# Altium footprint library RES-SMD-0805.PcbLib: 70 footprints (part 3 of 5)
Each footprint in its own frame and in the unit in brackets; x right, y up, seen from the top. Pads: shape width x height; smd on the part's side, far side on the other; paste and mask are expansions set on the pad; w line width, h text height; cw(c..) or ccw(c..) is an arc to the next point about the centre after c.
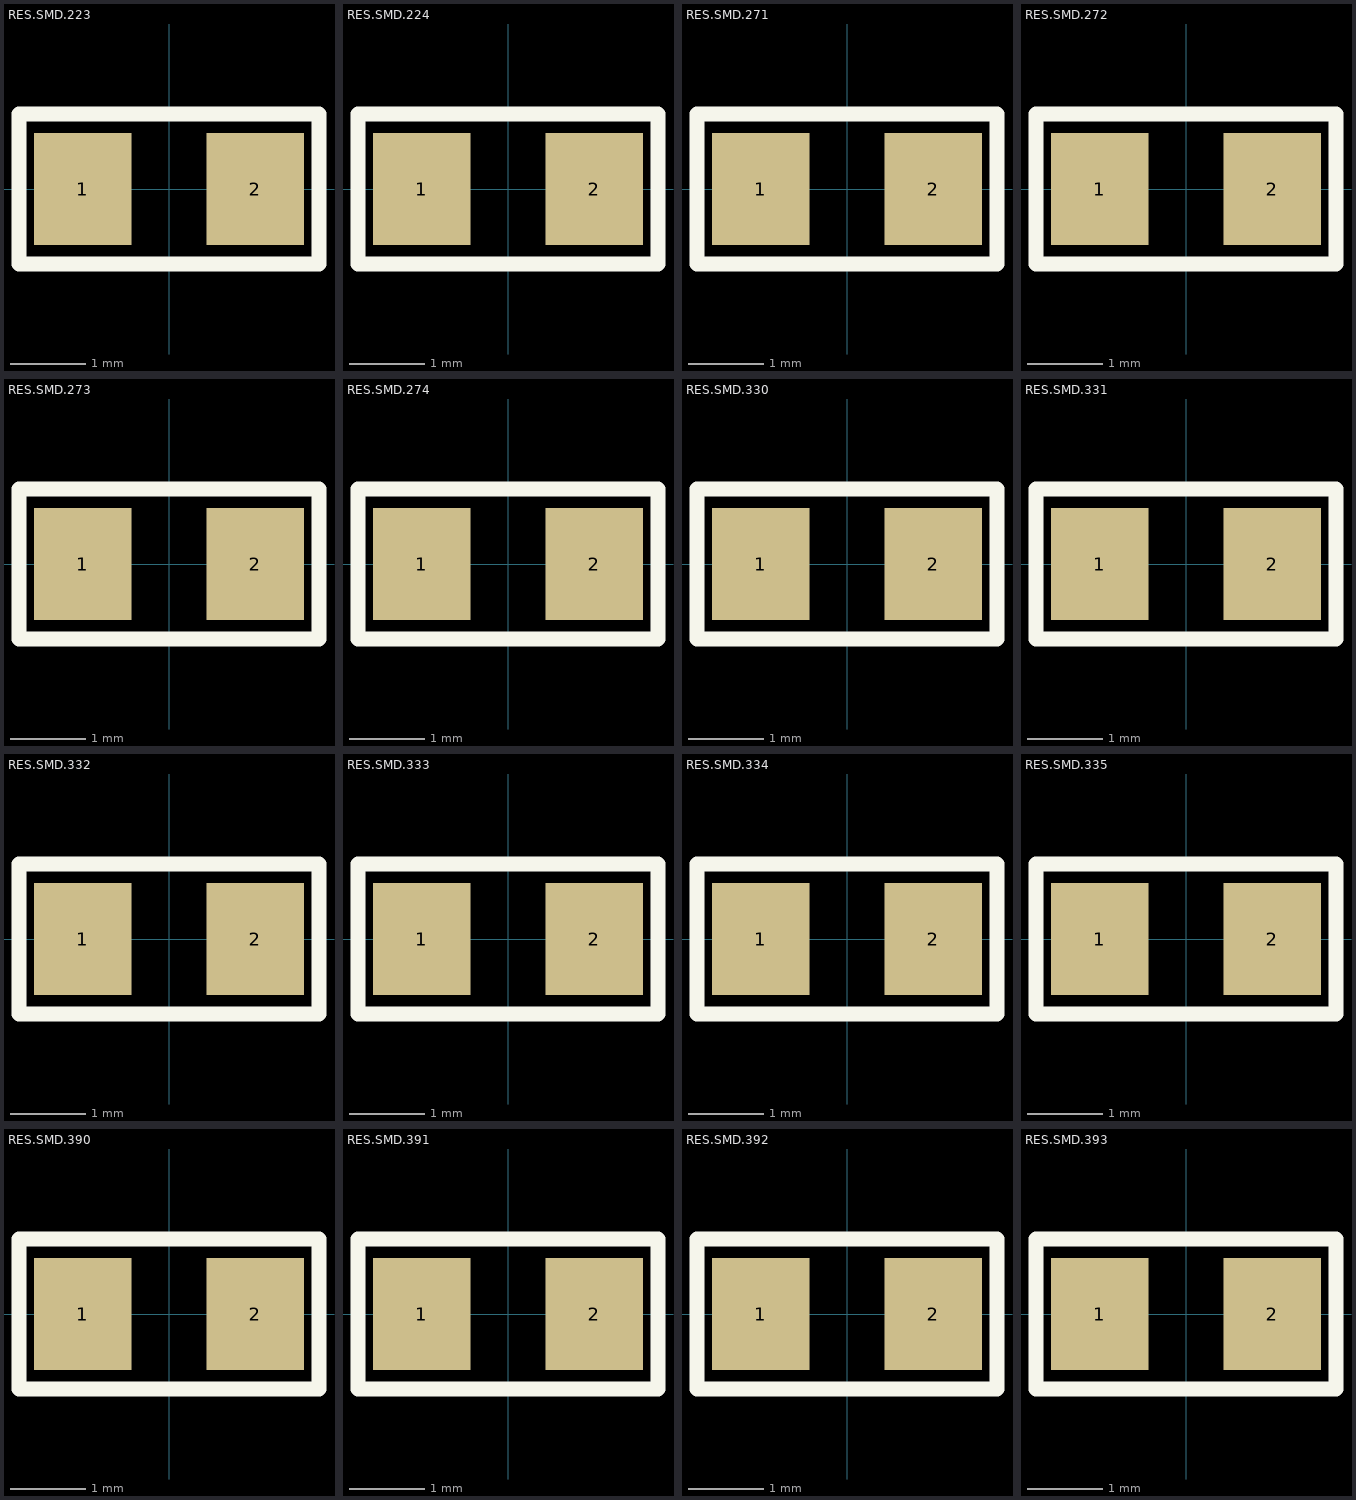
[diagram p2: the footprints below, top view; thin cyan lines are the x and y axes]

## RES.SMD.223 [mm] "5% 0805 1/8W RES.SMD"
pads (2):
  rect 1.3x1.5 smd: 1(-1.15,0) 2(1.15,0)
Top Overlay:
  lines w0.2: -2,-1 2,-1 2,1 -2,1 -2,-1
3D body "RES-SMD-223.stp": height 0.48, standoff -0.02, extent -0.873,-0.625 1.127,0.625

## RES.SMD.224 [mm] "5% 0805 1/8W RES.SMD"
pads (2):
  rect 1.3x1.5 smd: 1(-1.15,0) 2(1.15,0)
Top Overlay:
  lines w0.2: -2,-1 2,-1 2,1 -2,1 -2,-1
3D body "RES-SMD-224.stp": height 0.48, standoff -0.02, extent -0.873,-0.625 1.127,0.625

## RES.SMD.271 [mm] "5% 0805 1/8W RES.SMD"
pads (2):
  rect 1.3x1.5 smd: 1(-1.15,0) 2(1.15,0)
Top Overlay:
  lines w0.2: -2,-1 -2,1 2,1 2,-1 -2,-1
3D body "RES-SMD-271.stp": height 0.48, standoff -0.02, extent -0.873,-0.625 1.127,0.625

## RES.SMD.272 [mm] "5% 0805 1/8W RES.SMD"
pads (2):
  rect 1.3x1.5 smd: 1(-1.15,0) 2(1.15,0)
Top Overlay:
  lines w0.2: -2,-1 -2,1 2,1 2,-1 -2,-1
3D body "RES-SMD-272.stp": height 0.48, standoff -0.02, extent -0.873,-0.625 1.127,0.625

## RES.SMD.273 [mm] "5% 0805 1/8W RES.SMD"
pads (2):
  rect 1.3x1.5 smd: 1(-1.15,0) 2(1.15,0)
Top Overlay:
  lines w0.2: -2,-1 -2,1 2,1 2,-1 -2,-1
3D body "RES-SMD-273.stp": height 0.48, standoff -0.02, extent -0.873,-0.625 1.127,0.625

## RES.SMD.274 [mm] "5% 0805 1/8W RES.SMD"
pads (2):
  rect 1.3x1.5 smd: 1(-1.15,0) 2(1.15,0)
Top Overlay:
  lines w0.2: -2,-1 2,-1 2,1 -2,1 -2,-1
3D body "RES-SMD-274.stp": height 0.48, standoff -0.02, extent -0.873,-0.625 1.127,0.625

## RES.SMD.330 [mm] "5% 0805 1/8W RES.SMD"
pads (2):
  rect 1.3x1.5 smd: 1(-1.15,0) 2(1.15,0)
Top Overlay:
  lines w0.2: -2,-1 2,-1 2,1 -2,1 -2,-1
3D body "RES-SMD-330.stp": height 0.48, standoff -0.02, extent -0.873,-0.625 1.127,0.625

## RES.SMD.331 [mm] "5% 0805 1/8W RES.SMD"
pads (2):
  rect 1.3x1.5 smd: 1(-1.15,0) 2(1.15,0)
Top Overlay:
  lines w0.2: -2,-1 2,-1 2,1 -2,1 -2,-1
3D body "RES-SMD-331.stp": height 0.48, standoff -0.02, extent -0.873,-0.625 1.127,0.625

## RES.SMD.332 [mm] "5% 0805 1/8W RES.SMD"
pads (2):
  rect 1.3x1.5 smd: 1(-1.15,0) 2(1.15,0)
Top Overlay:
  lines w0.2: -2,-1 2,-1 2,1 -2,1 -2,-1
3D body "RES-SMD-332.stp": height 0.48, standoff -0.02, extent -0.873,-0.625 1.127,0.625

## RES.SMD.333 [mm] "5% 0805 1/8W RES.SMD"
pads (2):
  rect 1.3x1.5 smd: 1(-1.15,0) 2(1.15,0)
Top Overlay:
  lines w0.2: -2,-1 -2,1 2,1 2,-1 -2,-1
3D body "RES-SMD-333.stp": height 0.48, standoff -0.02, extent -0.873,-0.625 1.127,0.625

## RES.SMD.334 [mm] "5% 0805 1/8W RES.SMD"
pads (2):
  rect 1.3x1.5 smd: 1(-1.15,0) 2(1.15,0)
Top Overlay:
  lines w0.2: -2,-1 -2,1 2,1 2,-1 -2,-1
3D body "RES-SMD-334.stp": height 0.48, standoff -0.02, extent -0.873,-0.625 1.127,0.625

## RES.SMD.335 [mm] "5% 0805 1/8W RES.SMD"
pads (2):
  rect 1.3x1.5 smd: 1(-1.15,0) 2(1.15,0)
Top Overlay:
  lines w0.2: -2,-1 2,-1 2,1 -2,1 -2,-1
3D body "RES-SMD-335.stp": height 0.48, standoff -0.02, extent -0.873,-0.625 1.127,0.625

## RES.SMD.390 [mm] "5% 0805 1/8W RES.SMD"
pads (2):
  rect 1.3x1.5 smd: 1(-1.15,0) 2(1.15,0)
Top Overlay:
  lines w0.2: -2,-1 -2,1 2,1 2,-1 -2,-1
3D body "RES-SMD-390.stp": height 0.48, standoff -0.02, extent -0.873,-0.625 1.127,0.625

## RES.SMD.391 [mm] "5% 0805 1/8W RES.SMD"
pads (2):
  rect 1.3x1.5 smd: 1(-1.15,0) 2(1.15,0)
Top Overlay:
  lines w0.2: -2,-1 -2,1 2,1 2,-1 -2,-1
3D body "RES-SMD-391.stp": height 0.48, standoff -0.02, extent -0.873,-0.625 1.127,0.625

## RES.SMD.392 [mm] "5% 0805 1/8W RES.SMD"
pads (2):
  rect 1.3x1.5 smd: 1(-1.15,0) 2(1.15,0)
Top Overlay:
  lines w0.2: -2,-1 -2,1 2,1 2,-1 -2,-1
3D body "RES-SMD-392.stp": height 0.48, standoff -0.02, extent -0.873,-0.625 1.127,0.625

## RES.SMD.393 [mm] "5% 0805 1/8W RES.SMD"
pads (2):
  rect 1.3x1.5 smd: 1(-1.15,0) 2(1.15,0)
Top Overlay:
  lines w0.2: -2,-1 -2,1 2,1 2,-1 -2,-1
3D body "RES-SMD-393.stp": height 0.48, standoff -0.02, extent -0.873,-0.625 1.127,0.625